# Altium integrated library Silicon Labs Voice.IntLib: 4 symbols
Pins are listed as number, name and electrical type; pins without a type are passive.

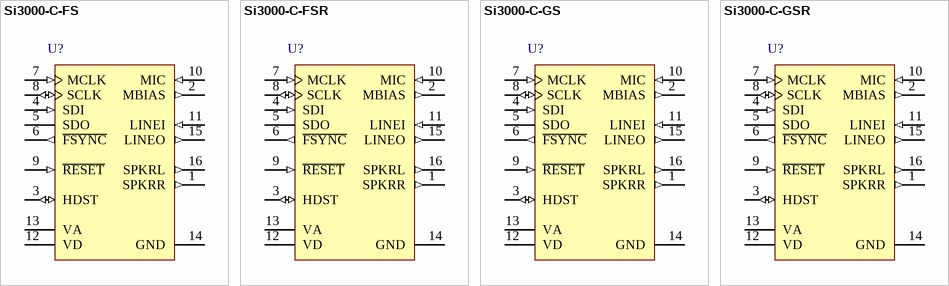
[diagram p0: symbols Si3000-C-FS to Si3000-C-GSR]

## Si3000-C-FS
designator U?
Voice Band Codec with Microphone / Speaker Drive, 0 to 70 degC, 16-pin SOIC, Tube; Manufacturer: Silicon Labs; PartNumber: Si3000-C-FS; Handset Hybrid: TRUE; Sub-Family: Voice Codec; DatasheetVersion: Rev. 1.4; PackageReference: SOIC-16-NB; PackageDescription: 16-Pin Small-Outline Integrated Circuit, Body 9.9 x 3.9 mm, Pitch 1.27 mm; Supplier 1: Digi-Key; Supplier Part Number 1: 336-1382-ND; Supplier 2: Mouser; Supplier Part Number 2: 634-SI3000-C-FS; Headphone Driver: TRUE; Input Mixer: TRUE; Microphone Amplifier: TRUE; Packing: Tube; Mounting Technology: Surface Mount; Code_JEDEC: MS-012; Code_IPC: J-STD-020; ComponentLink1Description: Manufacturer URL; ComponentLink1URL: http://www.silabs.com/; ComponentLink2Description: Datasheet; ComponentLink2URL: http://www.silabs.com/Support%20Documents/TechnicalDocs/Si3000.pdf; ComponentLink3Description: Package Specification; ComponentLink3URL: http://www.silabs.com/Support%20Documents/TechnicalDocs/si2401.pdf
footprint SLAB-SOIC-16-NB_N (SOIC, 16-Leads, Body 9.9x3.9mm, Pitch 1.27mm, IPC Medium Density)
footprint SLAB-SOIC-16-NB_L (SOIC, 16-Leads, Body 9.9x3.9mm, Pitch 1.27mm, IPC High Density)
footprint SLAB-SOIC-16-NB_M (SOIC, 16-Leads, Body 9.9x3.9mm, Pitch 1.27mm, IPC Low Density)
pins: 1 SPKRR (out) "Speaker Right Output.", 2 MBIAS (out) "Microphone bias output.", 3 HDST (io) "Handset Input/Output.", 4 SDI (in) "Serial Port Data In.", 5 SDO (hiz) "Serial Port Data Out.", 6 ~{FSYNC} (out) "Frame Sync Output.", 7 MCLK (in) "Master Clock Input.", 8 SCLK (io) "Serial Port Bit Clock Input/Output.", 9 ~{RESET} (in) "Reset.", 10 MIC (in) "MIC Input.", 11 LINEI (in) "Line Input.", 12 VD (power) "Digital Supply Voltage.", 13 VA (power) "Analog Supply Voltage.", 14 GND (power) "Ground.", 15 LINEO (out) "Line Output.", 16 SPKRL (out) "Speaker Left Output."

## Si3000-C-FSR
designator U?
Voice Band Codec with Microphone / Speaker Drive, 0 to 70 degC, 16-pin SOIC, Tape and Reel; Manufacturer: Silicon Labs; PartNumber: Si3000-C-FSR; Handset Hybrid: TRUE; Sub-Family: Voice Codec; DatasheetVersion: Rev. 1.4; PackageReference: SOIC-16-NB; PackageDescription: 16-Pin Small-Outline Integrated Circuit, Body 9.9 x 3.9 mm, Pitch 1.27 mm; Supplier 1: Digi-Key; Supplier Part Number 1: SI3000-C-FSR-ND; Supplier 2: Mouser; Supplier Part Number 2: 634-SI3000-C-FSR; Headphone Driver: TRUE; Input Mixer: TRUE; Microphone Amplifier: TRUE; Packing: Tape and Reel; Mounting Technology: Surface Mount; Code_JEDEC: MS-012; Code_IPC: J-STD-020; ComponentLink1Description: Manufacturer URL; ComponentLink1URL: http://www.silabs.com/; ComponentLink2Description: Datasheet; ComponentLink2URL: http://www.silabs.com/Support%20Documents/TechnicalDocs/Si3000.pdf; ComponentLink3Description: Package Specification; ComponentLink3URL: http://www.silabs.com/Support%20Documents/TechnicalDocs/si2401.pdf
footprint SLAB-SOIC-16-NB_N (SOIC, 16-Leads, Body 9.9x3.9mm, Pitch 1.27mm, IPC Medium Density)
footprint SLAB-SOIC-16-NB_L (SOIC, 16-Leads, Body 9.9x3.9mm, Pitch 1.27mm, IPC High Density)
footprint SLAB-SOIC-16-NB_M (SOIC, 16-Leads, Body 9.9x3.9mm, Pitch 1.27mm, IPC Low Density)
pins: 1 SPKRR (out) "Speaker Right Output.", 2 MBIAS (out) "Microphone bias output.", 3 HDST (io) "Handset Input/Output.", 4 SDI (in) "Serial Port Data In.", 5 SDO (hiz) "Serial Port Data Out.", 6 ~{FSYNC} (out) "Frame Sync Output.", 7 MCLK (in) "Master Clock Input.", 8 SCLK (io) "Serial Port Bit Clock Input/Output.", 9 ~{RESET} (in) "Reset.", 10 MIC (in) "MIC Input.", 11 LINEI (in) "Line Input.", 12 VD (power) "Digital Supply Voltage.", 13 VA (power) "Analog Supply Voltage.", 14 GND (power) "Ground.", 15 LINEO (out) "Line Output.", 16 SPKRL (out) "Speaker Left Output."

## Si3000-C-GS
designator U?
Voice Band Codec with Microphone / Speaker Drive, -40 to 85 degC, 16-pin SOIC, Tube; Manufacturer: Silicon Labs; PartNumber: Si3000-C-GS; Handset Hybrid: TRUE; Sub-Family: Voice Codec; DatasheetVersion: Rev. 1.4; PackageReference: SOIC-16-NB; PackageDescription: 16-Pin Small-Outline Integrated Circuit, Body 9.9 x 3.9 mm, Pitch 1.27 mm; Supplier 1: Digi-Key; Supplier Part Number 1: 336-2136-5-ND; Supplier 2: Mouser; Supplier Part Number 2: 634-SI3000-C-GS; Headphone Driver: TRUE; Input Mixer: TRUE; Microphone Amplifier: TRUE; Packing: Tube; Mounting Technology: Surface Mount; Code_JEDEC: MS-012; Code_IPC: J-STD-020; ComponentLink1Description: Manufacturer URL; ComponentLink1URL: http://www.silabs.com/; ComponentLink2Description: Datasheet; ComponentLink2URL: http://www.silabs.com/Support%20Documents/TechnicalDocs/Si3000.pdf; ComponentLink3Description: Package Specification; ComponentLink3URL: http://www.silabs.com/Support%20Documents/TechnicalDocs/si2401.pdf
footprint SLAB-SOIC-16-NB_N (SOIC, 16-Leads, Body 9.9x3.9mm, Pitch 1.27mm, IPC Medium Density)
footprint SLAB-SOIC-16-NB_L (SOIC, 16-Leads, Body 9.9x3.9mm, Pitch 1.27mm, IPC High Density)
footprint SLAB-SOIC-16-NB_M (SOIC, 16-Leads, Body 9.9x3.9mm, Pitch 1.27mm, IPC Low Density)
pins: 1 SPKRR (out) "Speaker Right Output.", 2 MBIAS (out) "Microphone bias output.", 3 HDST (io) "Handset Input/Output.", 4 SDI (in) "Serial Port Data In.", 5 SDO (hiz) "Serial Port Data Out.", 6 ~{FSYNC} (out) "Frame Sync Output.", 7 MCLK (in) "Master Clock Input.", 8 SCLK (io) "Serial Port Bit Clock Input/Output.", 9 ~{RESET} (in) "Reset.", 10 MIC (in) "MIC Input.", 11 LINEI (in) "Line Input.", 12 VD (power) "Digital Supply Voltage.", 13 VA (power) "Analog Supply Voltage.", 14 GND (power) "Ground.", 15 LINEO (out) "Line Output.", 16 SPKRL (out) "Speaker Left Output."

## Si3000-C-GSR
designator U?
Voice Band Codec with Microphone / Speaker Drive, -40 to 85 degC, 16-pin SOIC, Tape and Reel; Manufacturer: Silicon Labs; PartNumber: Si3000-C-GSR; Handset Hybrid: TRUE; Sub-Family: Voice Codec; DatasheetVersion: Rev. 1.4; PackageReference: SOIC-16-NB; PackageDescription: 16-Pin Small-Outline Integrated Circuit, Body 9.9 x 3.9 mm, Pitch 1.27 mm; Supplier 1: Digi-Key; Supplier Part Number 1: SI3000-C-GSR-ND; Supplier 2: Mouser; Supplier Part Number 2: 634-SI3000-C-GSR; Headphone Driver: TRUE; Input Mixer: TRUE; Microphone Amplifier: TRUE; Packing: Tape and Reel; Mounting Technology: Surface Mount; Code_JEDEC: MS-012; Code_IPC: J-STD-020; ComponentLink1Description: Manufacturer URL; ComponentLink1URL: http://www.silabs.com/; ComponentLink2Description: Datasheet; ComponentLink2URL: http://www.silabs.com/Support%20Documents/TechnicalDocs/Si3000.pdf; ComponentLink3Description: Package Specification; ComponentLink3URL: http://www.silabs.com/Support%20Documents/TechnicalDocs/si2401.pdf
footprint SLAB-SOIC-16-NB_N (SOIC, 16-Leads, Body 9.9x3.9mm, Pitch 1.27mm, IPC Medium Density)
footprint SLAB-SOIC-16-NB_L (SOIC, 16-Leads, Body 9.9x3.9mm, Pitch 1.27mm, IPC High Density)
footprint SLAB-SOIC-16-NB_M (SOIC, 16-Leads, Body 9.9x3.9mm, Pitch 1.27mm, IPC Low Density)
pins: 1 SPKRR (out) "Speaker Right Output.", 2 MBIAS (out) "Microphone bias output.", 3 HDST (io) "Handset Input/Output.", 4 SDI (in) "Serial Port Data In.", 5 SDO (hiz) "Serial Port Data Out.", 6 ~{FSYNC} (out) "Frame Sync Output.", 7 MCLK (in) "Master Clock Input.", 8 SCLK (io) "Serial Port Bit Clock Input/Output.", 9 ~{RESET} (in) "Reset.", 10 MIC (in) "MIC Input.", 11 LINEI (in) "Line Input.", 12 VD (power) "Digital Supply Voltage.", 13 VA (power) "Analog Supply Voltage.", 14 GND (power) "Ground.", 15 LINEO (out) "Line Output.", 16 SPKRL (out) "Speaker Left Output."